# Altium footprint library soldeerstation.PcbLib: 28 footprints (part 1 of 2)
Each footprint in its own frame and in the unit in brackets; x right, y up, seen from the top. Pads: shape width x height; smd on the part's side, far side on the other; paste and mask are expansions set on the pad; w line width, h text height; cw(c..) or ccw(c..) is an arc to the next point about the centre after c.
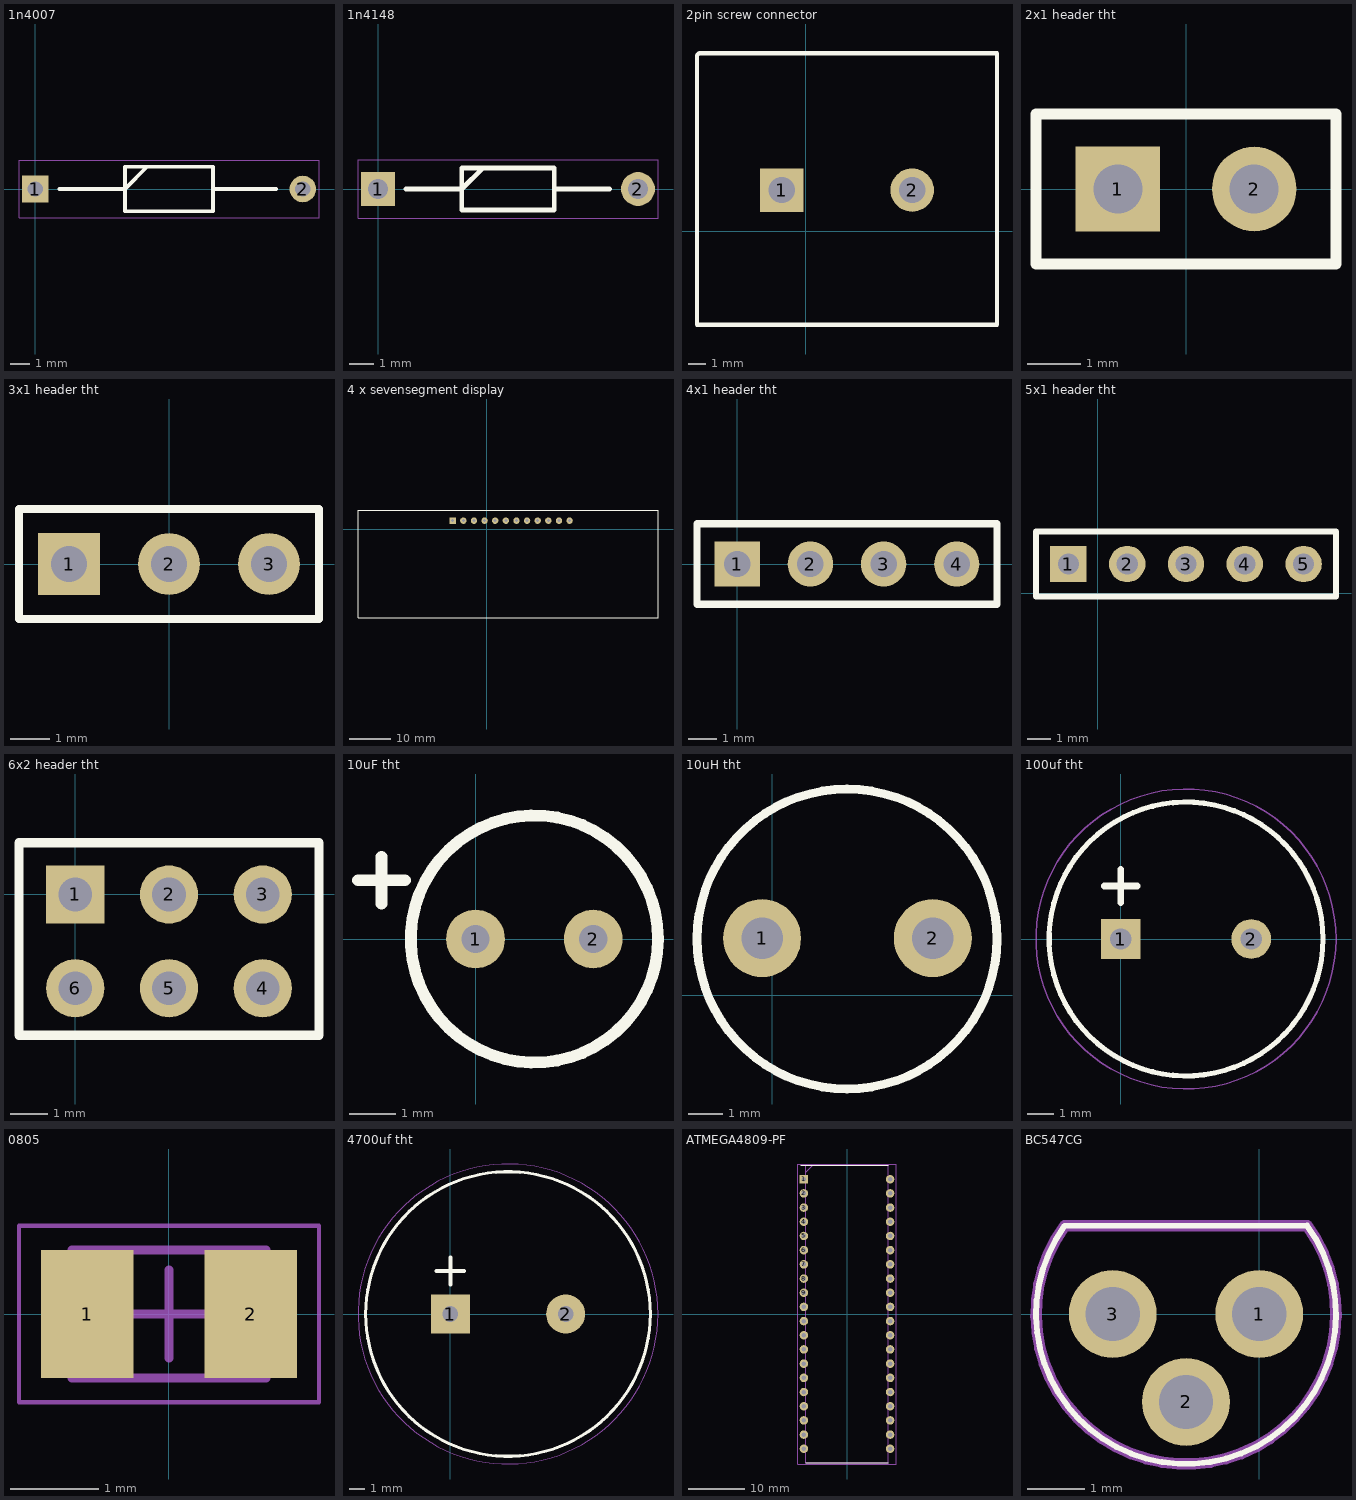
[diagram p0: the footprints below, top view; thin cyan lines are the x and y axes]

## 1n4007 [mil]
pads (2):
  rect 55x55 hole 32: 1(0,0)
  round 55 hole 32: 2(555.12,0)
Top Overlay:
  lines w7.87: 50,0 186.02,0 232.28,46.26 ; 369.09,0 500,0 ; 186.02,-46.26 186.02,46.26 369.09,46.26 369.09,-46.26 186.02,-46.26
Mechanical 15:
  lines w3.94: 186.02,0 232.28,46.26 ; 186.02,-46.26 186.02,46.26 369.09,46.26 369.09,-46.26 186.02,-46.26
Bottom Assembly:
  lines w1.97: -33.46,-60.04 -33.46,60.04 588.58,60.04 588.58,-60.04 -33.46,-60.04

## 1n4148 [mil]
pads (2):
  rect 55x55 hole 32: 1(0,0)
  round 55 hole 32: 2(421.26,0)
Top Overlay:
  lines w7.87: 45,0 135.75,0 169.61,33.86 ; 285.51,0 375,0 ; 135.75,-33.86 285.51,-33.86 285.51,33.86 135.75,33.86 135.75,-33.86
Mechanical 15:
  lines w3.94: 135.75,0 169.61,33.86 ; 135.75,-33.86 285.55,-33.86 285.55,33.86 135.75,33.86 135.75,-33.86
Bottom Assembly:
  lines w1.97: -32.48,-47.64 453.74,-47.64 453.74,47.64 -32.48,47.64 -32.48,-47.64

## 2pin screw connector [mil]
pads (2):
  rect 100x100 hole 60: 1(-55,95)
  round 100 hole 60: 2(245,95)
Top Overlay:
  lines w10: -250,-215 440,-215 440,-58.75 440,253.75 440,410 201.25,410 -21.25,410 -245,410 -250,405 -250,150 -250,-215

## 2x1 header tht [mil]
pads (2):
  rect 62x62 hole 36 paste-39370.1 mask+0: 1(-50,0)
  round 62 hole 36 paste-39370.1 mask+0: 2(50,0)
Top Overlay:
  lines w7.87: -110,-55 110,-55 110,55 -110,55 -110,-55

## 3x1 header tht [mil]
pads (3):
  rect 62x62 hole 36 paste-39370.1 mask+0: 1(-100,0)
  round 62 hole 36 paste-39370.1 mask+0: 2(0,0) 3(100,0)
Top Overlay:
  lines w7.87: -150,-55 -150,55 150,55 150,-55 -150,-55

## 4 x sevensegment display [mil]
pads (12):
  rect 60x60 hole 28: 1(-320,80)
  round 60 hole 28: 2(-220,80) 3(-120,80) 4(-20,80) 5(80,80) 6(180,80) 7(280,80) 8(380,80) 9(480,80) 10(580,80) 11(680,80) 12(780,80)
Top Overlay:
  lines w10: -1211,-835 1612,-835 1612,180 -1211,180 -1211,-835

## 4x1 header tht [mil]
pads (4):
  rect 62x62 hole 36: 1(0,0)
  round 62 hole 36: 2(100,0) 3(200,0) 4(300,0)
Top Overlay:
  lines w10: -55,-55 -55,55 355,55 355,-55 -55,-55

## 5x1 header tht [mil]
pads (5):
  rect 62x62 hole 36: 1(-50,50)
  round 62 hole 36: 2(50,50) 3(150,50) 4(250,50) 5(350,50)
Top Overlay:
  lines w10: -105,-5 -105,105 405,105 405,-5 -105,-5

## 6x2 header tht [mil]
pads (6):
  rect 62x62 hole 36: 1(0,0)
  round 62 hole 36: 2(100,0) 3(200,0) 4(200,-100) 5(100,-100) 6(0,-100)
Top Overlay:
  lines w10: -60,-150 -60,55 260,55 260,-150 -60,-150

## 10uF tht [mil]
pads (2):
  round 50 hole 24: 1(0,0) 2(100,0)
Top Overlay:
  circle w10: c50,0 r105.12
  lines w10: -100,50 -60,50 ; -80,30 -80,70

## 10uH tht [mil] "10uH"
pads (2):
  round 90 hole 48: 1(-12,66) 2(185,66)
Top Overlay:
  circle w10: c86,65 r173.1

## 100uf tht [mil]
pads (2):
  rect 60x60 hole 32: 1(0,0)
  round 60 hole 32: 2(196.85,0)
Top Overlay:
  circle w7.87: c98.43,0 r206.69
  lines w10: -25,80 25,80 ; 0,55 0,105
Mechanical 15:
  circle w3.94: c98.43,0 r206.69
Bottom Assembly:
  circle w1.97: c98.43,0 r226.38

## 0805 [mm] "Chip Resistor, 2-Leads, Body 2.00x1.25mm, IPC Medium Density"
height 0.5
pads (2):
  rect 1.05x1.45 smd: 1(-0.925,0) 2(0.925,0)
Mechanical 13:
  lines w0.1: -1.1,-0.725 1.1,-0.725 1.1,0.725 -1.1,0.725 -1.1,-0.725
Mechanical 15:
  lines w0.05: -1.7,-1 1.7,-1 1.7,1 -1.7,1 -1.7,-1
  lines w0.1: -0.5,0 0.5,0 ; 0,-0.5 0,0.5
3D body: height 0.5, standoff 0, extent 0.8,-0.725 1.1,0.725
3D body: height 0.5, standoff 0, extent -1.1,-0.725 -0.8,0.725
3D body: height 0.5, standoff 0, extent -0.8,-0.725 0.8,0.725

## 4700uf tht [mil] "CAPPRD750W80D1850H4150"
pads (2):
  rect 100x100 hole 40: 1(0,0)
  round 100 hole 40: 2(295.28,0)
Top Overlay:
  circle w7.87: c147.64,0 r364.17
  lines w10: -35,110 35,110 ; 0,75 0,145
Mechanical 15:
  circle w3.94: c147.64,0 r364.17
Bottom Assembly:
  circle w1.97: c147.64,0 r383.86

## ATMEGA4809-PF [mil]
pads (40):
  rect 60x60 hole 32: 1(-303.74,950)
  round 60 hole 32: 2(-303.74,850) 3(-303.74,750) 4(-303.74,650) 5(-303.74,550) 6(-303.74,450) 7(-303.74,350) 8(-303.74,250) 9(-303.74,150) 10(-303.74,50) 11(-303.74,-50) 12(-303.74,-150) 13(-303.74,-250) 14(-303.74,-350) 15(-303.74,-450) 16(-303.74,-550) 17(-303.74,-650) 18(-303.74,-750) 19(-303.74,-850) 20(-303.74,-950) 21(303.74,-950) 22(303.74,-850) 23(303.74,-750) 24(303.74,-650) 25(303.74,-550) 26(303.74,-450) 27(303.74,-350) 28(303.74,-250) 29(303.74,-150) 30(303.74,-50) 31(303.74,50) 32(303.74,150) 33(303.74,250) 34(303.74,350) 35(303.74,450) 36(303.74,550) 37(303.74,650) 38(303.74,750) 39(303.74,850) 40(303.74,950)
Top Overlay:
  lines w7.87: -327.05,1047.48 290,1047.48 ; -290,-1047.48 290,-1047.48
Mechanical 13:
  lines w3.94: -290,997.48 -240,1047.48 ; -290,-1047.48 290,-1047.48 290,1047.48 -290,1047.48 -290,-1047.48
Mechanical 15:
  lines w1.97: -345.67,-1057.32 345.67,-1057.32 345.67,1057.32 -345.67,1057.32 -345.67,-1057.32
3D body "ATMEGA4809-PF.stp": height 250, standoff -137.8, extent -309.5,-1018.75 309.5,1018.75

## BC547CG [mil]
pads (3):
  round 60 hole 37: 1(0,0) 2(-50,-60) 3(-100,0)
Top Overlay:
  lines w3.94: -132.81,60.17 ccw(c-50,0) 32.71,60.31 ; -132.76,60.24 32.76,60.24
Mechanical 13:
  lines w7.87: -132.81,60.17 ccw(c-50,0) 32.71,60.31 ; -132.76,60.24 32.76,60.24
3D body "BC547CG.stp": height 327.95, standoff -496.85, extent -152.33,-94.49 52.33,70.47